# Altium schematic symbol library SMTSO-440-4ET Conn.SchLib: 1 symbol
Pins are listed as number, name and electrical type; pins without a type are passive.

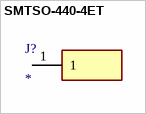
[diagram p0: symbol SMTSO-440-4ET]

## SMTSO-440-4ET
designator J?
Connector; Manufacturer_Name: Wurth Elektronik; Manufacturer_Part_Number: 746600330R; Datasheet Link: https://www.mouser.com/datasheet/2/445/746600330R-1095622.pdf; Height: 4mm; Mouser Part Number: 710-746600330R; Mouser Price/Stock: https://www.mouser.co.uk/ProductDetail/Wurth-Elektronik/746600330R?qs=lBTPRtX1sU8mwfQdkSz5%2FQ%3D%3D
footprint SMTSO-440-4ET (Footprint not found)
pins: 1